# Altium schematic symbol library pin1x7.SchLib: 1 symbol
Pins are listed as number, name and electrical type; pins without a type are passive.

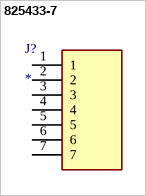
[diagram p0: symbol 825433-7]

## 825433-7
designator J?
Connector; Manufacturer_Name: TE Connectivity; Manufacturer_Part_Number: 825433-7; Datasheet Link: https://componentsearchengine.com//825433-7.pdf; Height: 9.9mm; Mouser2 Part Number: 571-825433-7; Mouser2 Price/Stock: https://www.mouser.com/Search/Refine.aspx?Keyword=571-825433-7
footprint 8254337
pins: 1, 2, 3, 4, 5, 6, 7